# Altium integrated library Silicon Labs Clocks and Oscillators.IntLib: 678 symbols (part 30 of 45)
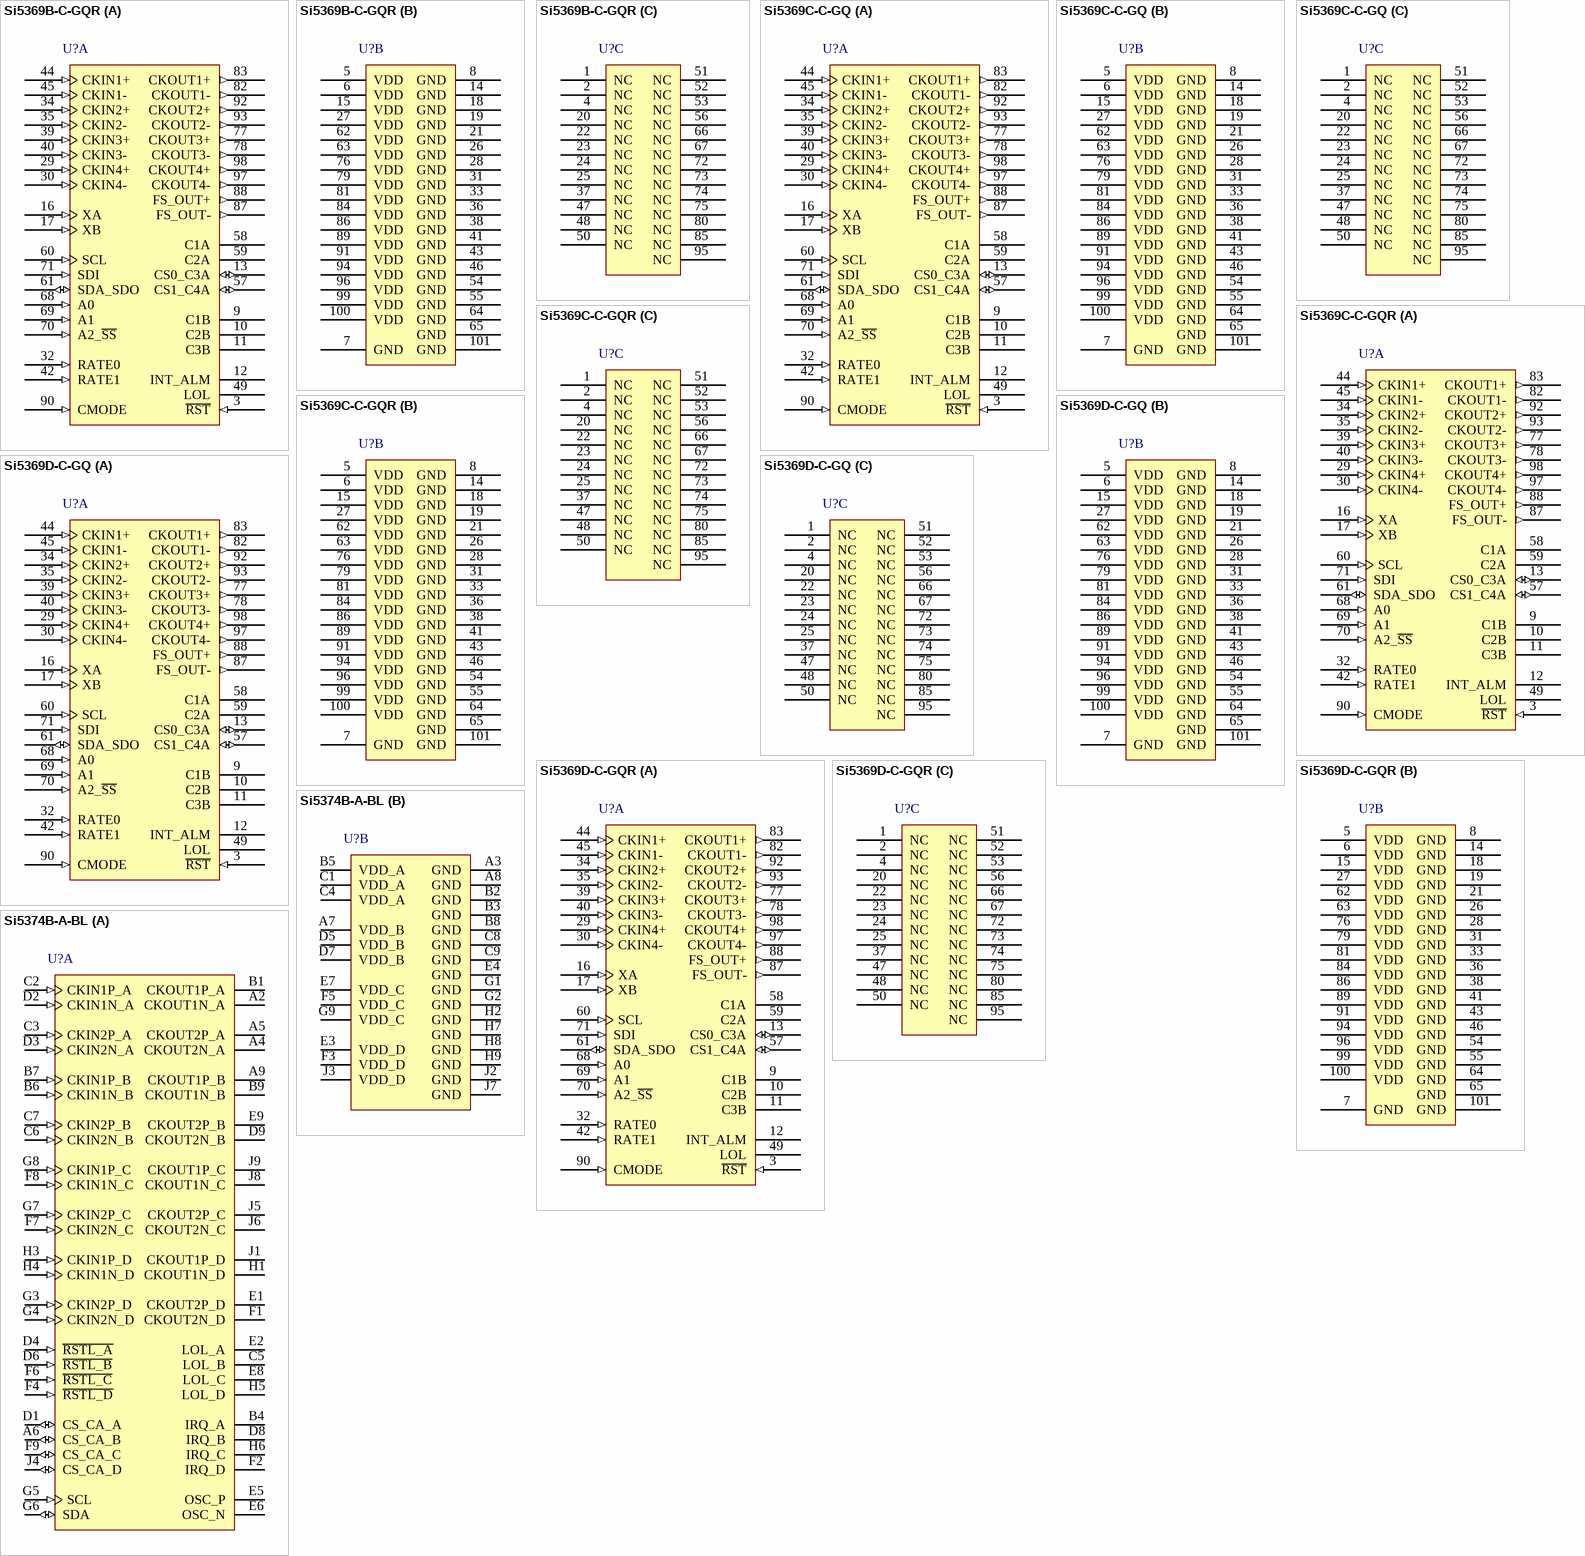
[diagram p73: symbols Si5369B-C-GQR to Si5374B-A-BL]

## Si5374B-A-BL
designator U?
4-PLL Any-Frequency Precision Clock Multiplier / Jitter Attenuator, 1.8 / 2.5 V, 0.002 to 808 MHz Output, -40 to 85 degC, 80-pin BGA; Manufacturer: Silicon Labs; PartNumber: Si5374B-A-BL; Output Format: LVPECL; LVDS; CML; LVCMOS; Reference Inputs: 8; VDD: 1.8 V; 2.5 V; Sub-Family: Clock Generators; DatasheetVersion: Rev. 1.0; PackageReference: PBGA-80; PackageDescription: 80-Ball Plastic Ball Grid Array, Body 10 x 10 mm, Pitch 1 mm; Supplier 1: Digi-Key; Supplier Part Number 1: SI5374B-A-BL-ND; Supplier 2: Mouser; Supplier Part Number 2: 634-SI5374B-A-BL; Output Frequency (MHz): 0.002 to 808; Mounting Technology: Surface Mount; Code_JEDEC: MO-192; Code_IPC: J-STD-020; ComponentLink1Description: Manufacturer URL; ComponentLink1URL: http://www.silabs.com/; ComponentLink2Description: Datasheet; ComponentLink2URL: http://www.silabs.com/Support%20Documents/TechnicalDocs/Si5374.pdf; ComponentLink3Description: Package Specification; ComponentLink3URL: http://www.silabs.com/Support%20Documents/TechnicalDocs/Si5376.pdf
footprint SLAB-PBGA-80 (BGA, 80-Balls, Body 10x10mm, Pitch 1mm)
part A pins: A2 CKOUT1N_A (hiz) "Differential output clock. Output signal format is selected by SFOUT_REG register bits. Output is differential for LVPECL, LVDS, and CML compatible modes. For CMOS format, both output pins drive in phase single-ended clock (See Datasheet)", A4 CKOUT2N_A (hiz) "Differential output clock. Output signal format is selected by SFOUT_REG register bits. Output is differential for LVPECL, LVDS, and CML compatible modes. For CMOS format, both output pins drive in phase single-ended clock (See Datasheet)", A5 CKOUT2P_A (hiz) "Differential output clock. Output signal format is selected by SFOUT_REG register bits. Output is differential for LVPECL, LVDS, and CML compatible modes. For CMOS format, both output pins drive in phase single-ended clock (See Datasheet)", A6 CS_CA_B (io) "Input: In manual clock selection mode, this pin functions as the manual input clock selector if the CKSEL_PIN is set to 1.0 = Select CKIN1. 1 = Select CKIN2 If CKSEL_PIN = 0, the CKSEL_REG register bit controls this function (See Datasheet)", A9 CKOUT1P_B (hiz) "Differential output clock. Output signal format is selected by SFOUT_REG register bits. Output is differential for LVPECL, LVDS, and CML compatible modes. For CMOS format, both output pins drive in phase single-ended clock (See Datasheet)", B1 CKOUT1P_A (hiz) "Differential output clock. Output signal format is selected by SFOUT_REG register bits. Output is differential for LVPECL, LVDS, and CML compatible modes. For CMOS format, both output pins drive in phase single-ended clock (See Datasheet)", B4 IRQ_A (hiz) "This pin functions as a device interrupt output. The interrupt output, IRQ_PINn must be set to 1. The pin functions as a maskable interrupt output with active polarity controlled by the IRQ_POLn register bit. 0 = CKINn (See Datasheet)", B6 CKIN1N_B (in) "Differential input clock. This input can also be driven with a single-ended signal.", B7 CKIN1P_B (in) "Differential input clock. This input can also be driven with a single-ended signal.", B9 CKOUT1N_B (hiz) "Differential output clock. Output signal format is selected by SFOUT_REG register bits. Output is differential for LVPECL, LVDS, and CML compatible modes. For CMOS format, both output pins drive in phase single-ended clock (See Datasheet)", C2 CKIN1P_A (in) "Differential input clock. This input can also be driven with a single-ended signal.", C3 CKIN2P_A (in) "Differential input clock. This input can also be driven with a single-ended signal.", C5 LOL_B (hiz) "This pin function as the active high PLL loss of lock indicator if the LOL_PIN register bit is set to 1. 0 = PLL locked. 1 = PLL unlocked. If LOL_PINn = 0, this pin will tri-state. Active polarity is controlled by the (See Datasheet)", C6 CKIN2N_B (in) "Differential input clock. This input can also be driven with a single-ended signal.", C7 CKIN2P_B (in) "Differential input clock. This input can also be driven with a single-ended signal.", D1 CS_CA_A (io) "Input: In manual clock selection mode, this pin functions as the manual input clock selector if the CKSEL_PIN is set to 1.0 = Select CKIN1. 1 = Select CKIN2 If CKSEL_PIN = 0, the CKSEL_REG register bit controls this function (See Datasheet)", D2 CKIN1N_A (in) "Differential input clock. This input can also be driven with a single-ended signal.", D3 CKIN2N_A (in) "Differential input clock. This input can also be driven with a single-ended signal.", D4 ~{RSTL_A} (in) "Active low input that performs external hardware reset of all four DSPLLs. Resets all internal logic to a known state and forces the device registers to their default value. Clock outputs are tri-stated during reset. The (See Datasheet)", D6 ~{RSTL_B} (in) "Active low input that performs external hardware reset of all four DSPLLs. Resets all internal logic to a known state and forces the device registers to their default value. Clock outputs are tri-stated during reset. The (See Datasheet)", D8 IRQ_B (hiz) "This pin functions as a device interrupt output. The interrupt output, IRQ_PINn must be set to 1. The pin functions as a maskable interrupt output with active polarity controlled by the IRQ_POLn register bit. 0 = CKINn (See Datasheet)", D9 CKOUT2N_B (hiz) "Differential output clock. Output signal format is selected by SFOUT_REG register bits. Output is differential for LVPECL, LVDS, and CML compatible modes. For CMOS format, both output pins drive in phase single-ended clock (See Datasheet)", E1 CKOUT2P_D (hiz) "Differential output clock. Output signal format is selected by SFOUT_REG register bits. Output is differential for LVPECL, LVDS, and CML compatible modes. For CMOS format, both output pins drive in phase single-ended clock (See Datasheet)", E2 LOL_A (hiz) "This pin function as the active high PLL loss of lock indicator if the LOL_PIN register bit is set to 1. 0 = PLL locked. 1 = PLL unlocked. If LOL_PINn = 0, this pin will tri-state. Active polarity is controlled by the (See Datasheet)", E5 OSC_P "An external low jitter reference clock should be connected to these pins. See the any-frequency precision clocks family reference manual for oscillator selection details.", E6 OSC_N "An external low jitter reference clock should be connected to these pins. See the any-frequency precision clocks family reference manual for oscillator selection details.", E8 LOL_C (hiz) "This pin function as the active high PLL loss of lock indicator if the LOL_PIN register bit is set to 1. 0 = PLL locked. 1 = PLL unlocked. If LOL_PINn = 0, this pin will tri-state. Active polarity is controlled by the (See Datasheet)", E9 CKOUT2P_B (hiz) "Differential output clock. Output signal format is selected by SFOUT_REG register bits. Output is differential for LVPECL, LVDS, and CML compatible modes. For CMOS format, both output pins drive in phase single-ended clock (See Datasheet)", F1 CKOUT2N_D (hiz) "Differential output clock. Output signal format is selected by SFOUT_REG register bits. Output is differential for LVPECL, LVDS, and CML compatible modes. For CMOS format, both output pins drive in phase single-ended clock (See Datasheet)", F2 IRQ_D (hiz) "This pin functions as a device interrupt output. The interrupt output, IRQ_PINn must be set to 1. The pin functions as a maskable interrupt output with active polarity controlled by the IRQ_POLn register bit. 0 = CKINn (See Datasheet)", F4 ~{RSTL_D} (in) "Active low input that performs external hardware reset of all four DSPLLs. Resets all internal logic to a known state and forces the device registers to their default value. Clock outputs are tri-stated during reset. The (See Datasheet)", F6 ~{RSTL_C} (in) "Active low input that performs external hardware reset of all four DSPLLs. Resets all internal logic to a known state and forces the device registers to their default value. Clock outputs are tri-stated during reset. The (See Datasheet)", F7 CKIN2N_C (in) "Differential input clock. This input can also be driven with a single-ended signal.", F8 CKIN1N_C (in) "Differential input clock. This input can also be driven with a single-ended signal.", F9 CS_CA_C (io) "Input: In manual clock selection mode, this pin functions as the manual input clock selector if the CKSEL_PIN is set to 1.0 = Select CKIN1. 1 = Select CKIN2 If CKSEL_PIN = 0, the CKSEL_REG register bit controls this function (See Datasheet)", G3 CKIN2P_D (in) "Differential input clock. This input can also be driven with a single-ended signal.", G4 CKIN2N_D (in) "Differential input clock. This input can also be driven with a single-ended signal.", G5 SCL (in) "This pin functions as the serial clock input. This pin has a weak pull-down.", G6 SDA (io) "I2C pin functions as the bi-directional serial data port.", G7 CKIN2P_C (in) "Differential input clock. This input can also be driven with a single-ended signal.", G8 CKIN1P_C (in) "Differential input clock. This input can also be driven with a single-ended signal.", H1 CKOUT1N_D (hiz) "Differential output clock. Output signal format is selected by SFOUT_REG register bits. Output is differential for LVPECL, LVDS, and CML compatible modes. For CMOS format, both output pins drive in phase single-ended clock (See Datasheet)", H3 CKIN1P_D (in) "Differential input clock. This input can also be driven with a single-ended signal.", H4 CKIN1N_D (in) "Differential input clock. This input can also be driven with a single-ended signal.", H5 LOL_D (hiz) "This pin function as the active high PLL loss of lock indicator if the LOL_PIN register bit is set to 1. 0 = PLL locked. 1 = PLL unlocked. If LOL_PINn = 0, this pin will tri-state. Active polarity is controlled by the (See Datasheet)", H6 IRQ_C (hiz) "This pin functions as a device interrupt output. The interrupt output, IRQ_PINn must be set to 1. The pin functions as a maskable interrupt output with active polarity controlled by the IRQ_POLn register bit. 0 = CKINn (See Datasheet)", J1 CKOUT1P_D (hiz) "Differential output clock. Output signal format is selected by SFOUT_REG register bits. Output is differential for LVPECL, LVDS, and CML compatible modes. For CMOS format, both output pins drive in phase single-ended clock (See Datasheet)", J4 CS_CA_D (io) "Input: In manual clock selection mode, this pin functions as the manual input clock selector if the CKSEL_PIN is set to 1.0 = Select CKIN1. 1 = Select CKIN2 If CKSEL_PIN = 0, the CKSEL_REG register bit controls this function (See Datasheet)", J5 CKOUT2P_C (hiz) "Differential output clock. Output signal format is selected by SFOUT_REG register bits. Output is differential for LVPECL, LVDS, and CML compatible modes. For CMOS format, both output pins drive in phase single-ended clock (See Datasheet)", J6 CKOUT2N_C (hiz) "Differential output clock. Output signal format is selected by SFOUT_REG register bits. Output is differential for LVPECL, LVDS, and CML compatible modes. For CMOS format, both output pins drive in phase single-ended clock (See Datasheet)", J8 CKOUT1N_C (hiz) "Differential output clock. Output signal format is selected by SFOUT_REG register bits. Output is differential for LVPECL, LVDS, and CML compatible modes. For CMOS format, both output pins drive in phase single-ended clock (See Datasheet)", J9 CKOUT1P_C (hiz) "Differential output clock. Output signal format is selected by SFOUT_REG register bits. Output is differential for LVPECL, LVDS, and CML compatible modes. For CMOS format, both output pins drive in phase single-ended clock (See Datasheet)"
part B pins: A3 GND (power) "Must be connected to system ground. Minimize the ground path impedance for optimal performance of this device. See recommended layout.", A7 VDD_B (power) "The device operates from a 1.8 or 2.5 V supply. A 0.1 uF bypass capacitive is required for every VDD_9 pin. Bypass capacitors should be associated with the following VDD_q pins: 0.1 uF per VDD pin. Four 1.0 uF should also be (See Datasheet)", A8 GND (power) "Must be connected to system ground. Minimize the ground path impedance for optimal performance of this device. See recommended layout.", B2 GND (power) "Must be connected to system ground. Minimize the ground path impedance for optimal performance of this device. See recommended layout.", B3 GND (power) "Must be connected to system ground. Minimize the ground path impedance for optimal performance of this device. See recommended layout.", B5 VDD_A (power) "The device operates from a 1.8 or 2.5 V supply. A 0.1 uF bypass capacitive is required for every VDD_9 pin. Bypass capacitors should be associated with the following VDD_q pins: 0.1 uF per VDD pin. Four 1.0 uF should also be (See Datasheet)", B8 GND (power) "Must be connected to system ground. Minimize the ground path impedance for optimal performance of this device. See recommended layout.", C1 VDD_A (power) "The device operates from a 1.8 or 2.5 V supply. A 0.1 uF bypass capacitive is required for every VDD_9 pin. Bypass capacitors should be associated with the following VDD_q pins: 0.1 uF per VDD pin. Four 1.0 uF should also be (See Datasheet)", C4 VDD_A (power) "The device operates from a 1.8 or 2.5 V supply. A 0.1 uF bypass capacitive is required for every VDD_9 pin. Bypass capacitors should be associated with the following VDD_q pins: 0.1 uF per VDD pin. Four 1.0 uF should also be (See Datasheet)", C8 GND (power) "Must be connected to system ground. Minimize the ground path impedance for optimal performance of this device. See recommended layout.", C9 GND (power) "Must be connected to system ground. Minimize the ground path impedance for optimal performance of this device. See recommended layout.", D5 VDD_B (power) "The device operates from a 1.8 or 2.5 V supply. A 0.1 uF bypass capacitive is required for every VDD_9 pin. Bypass capacitors should be associated with the following VDD_q pins: 0.1 uF per VDD pin. Four 1.0 uF should also be (See Datasheet)", D7 VDD_B (power) "The device operates from a 1.8 or 2.5 V supply. A 0.1 uF bypass capacitive is required for every VDD_9 pin. Bypass capacitors should be associated with the following VDD_q pins: 0.1 uF per VDD pin. Four 1.0 uF should also be (See Datasheet)", E3 VDD_D (power) "The device operates from a 1.8 or 2.5 V supply. A 0.1 uF bypass capacitive is required for every VDD_9 pin. Bypass capacitors should be associated with the following VDD_q pins: 0.1 uF per VDD pin. Four 1.0 uF should also be (See Datasheet)", E4 GND (power) "Must be connected to system ground. Minimize the ground path impedance for optimal performance of this device. See recommended layout.", E7 VDD_C (power) "The device operates from a 1.8 or 2.5 V supply. A 0.1 uF bypass capacitive is required for every VDD_9 pin. Bypass capacitors should be associated with the following VDD_q pins: 0.1 uF per VDD pin. Four 1.0 uF should also be (See Datasheet)", F3 VDD_D (power) "The device operates from a 1.8 or 2.5 V supply. A 0.1 uF bypass capacitive is required for every VDD_9 pin. Bypass capacitors should be associated with the following VDD_q pins: 0.1 uF per VDD pin. Four 1.0 uF should also be (See Datasheet)", F5 VDD_C (power) "The device operates from a 1.8 or 2.5 V supply. A 0.1 uF bypass capacitive is required for every VDD_9 pin. Bypass capacitors should be associated with the following VDD_q pins: 0.1 uF per VDD pin. Four 1.0 uF should also be (See Datasheet)", G1 GND (power) "Must be connected to system ground. Minimize the ground path impedance for optimal performance of this device. See recommended layout.", G2 GND (power) "Must be connected to system ground. Minimize the ground path impedance for optimal performance of this device. See recommended layout.", G9 VDD_C (power) "The device operates from a 1.8 or 2.5 V supply. A 0.1 uF bypass capacitive is required for every VDD_9 pin. Bypass capacitors should be associated with the following VDD_q pins: 0.1 uF per VDD pin. Four 1.0 uF should also be (See Datasheet)", H2 GND (power) "Must be connected to system ground. Minimize the ground path impedance for optimal performance of this device. See recommended layout.", H7 GND (power) "Must be connected to system ground. Minimize the ground path impedance for optimal performance of this device. See recommended layout.", H8 GND (power) "Must be connected to system ground. Minimize the ground path impedance for optimal performance of this device. See recommended layout.", H9 GND (power) "Must be connected to system ground. Minimize the ground path impedance for optimal performance of this device. See recommended layout.", J2 GND (power) "Must be connected to system ground. Minimize the ground path impedance for optimal performance of this device. See recommended layout.", J3 VDD_D (power) "The device operates from a 1.8 or 2.5 V supply. A 0.1 uF bypass capacitive is required for every VDD_9 pin. Bypass capacitors should be associated with the following VDD_q pins: 0.1 uF per VDD pin. Four 1.0 uF should also be (See Datasheet)", J7 GND (power) "Must be connected to system ground. Minimize the ground path impedance for optimal performance of this device. See recommended layout."

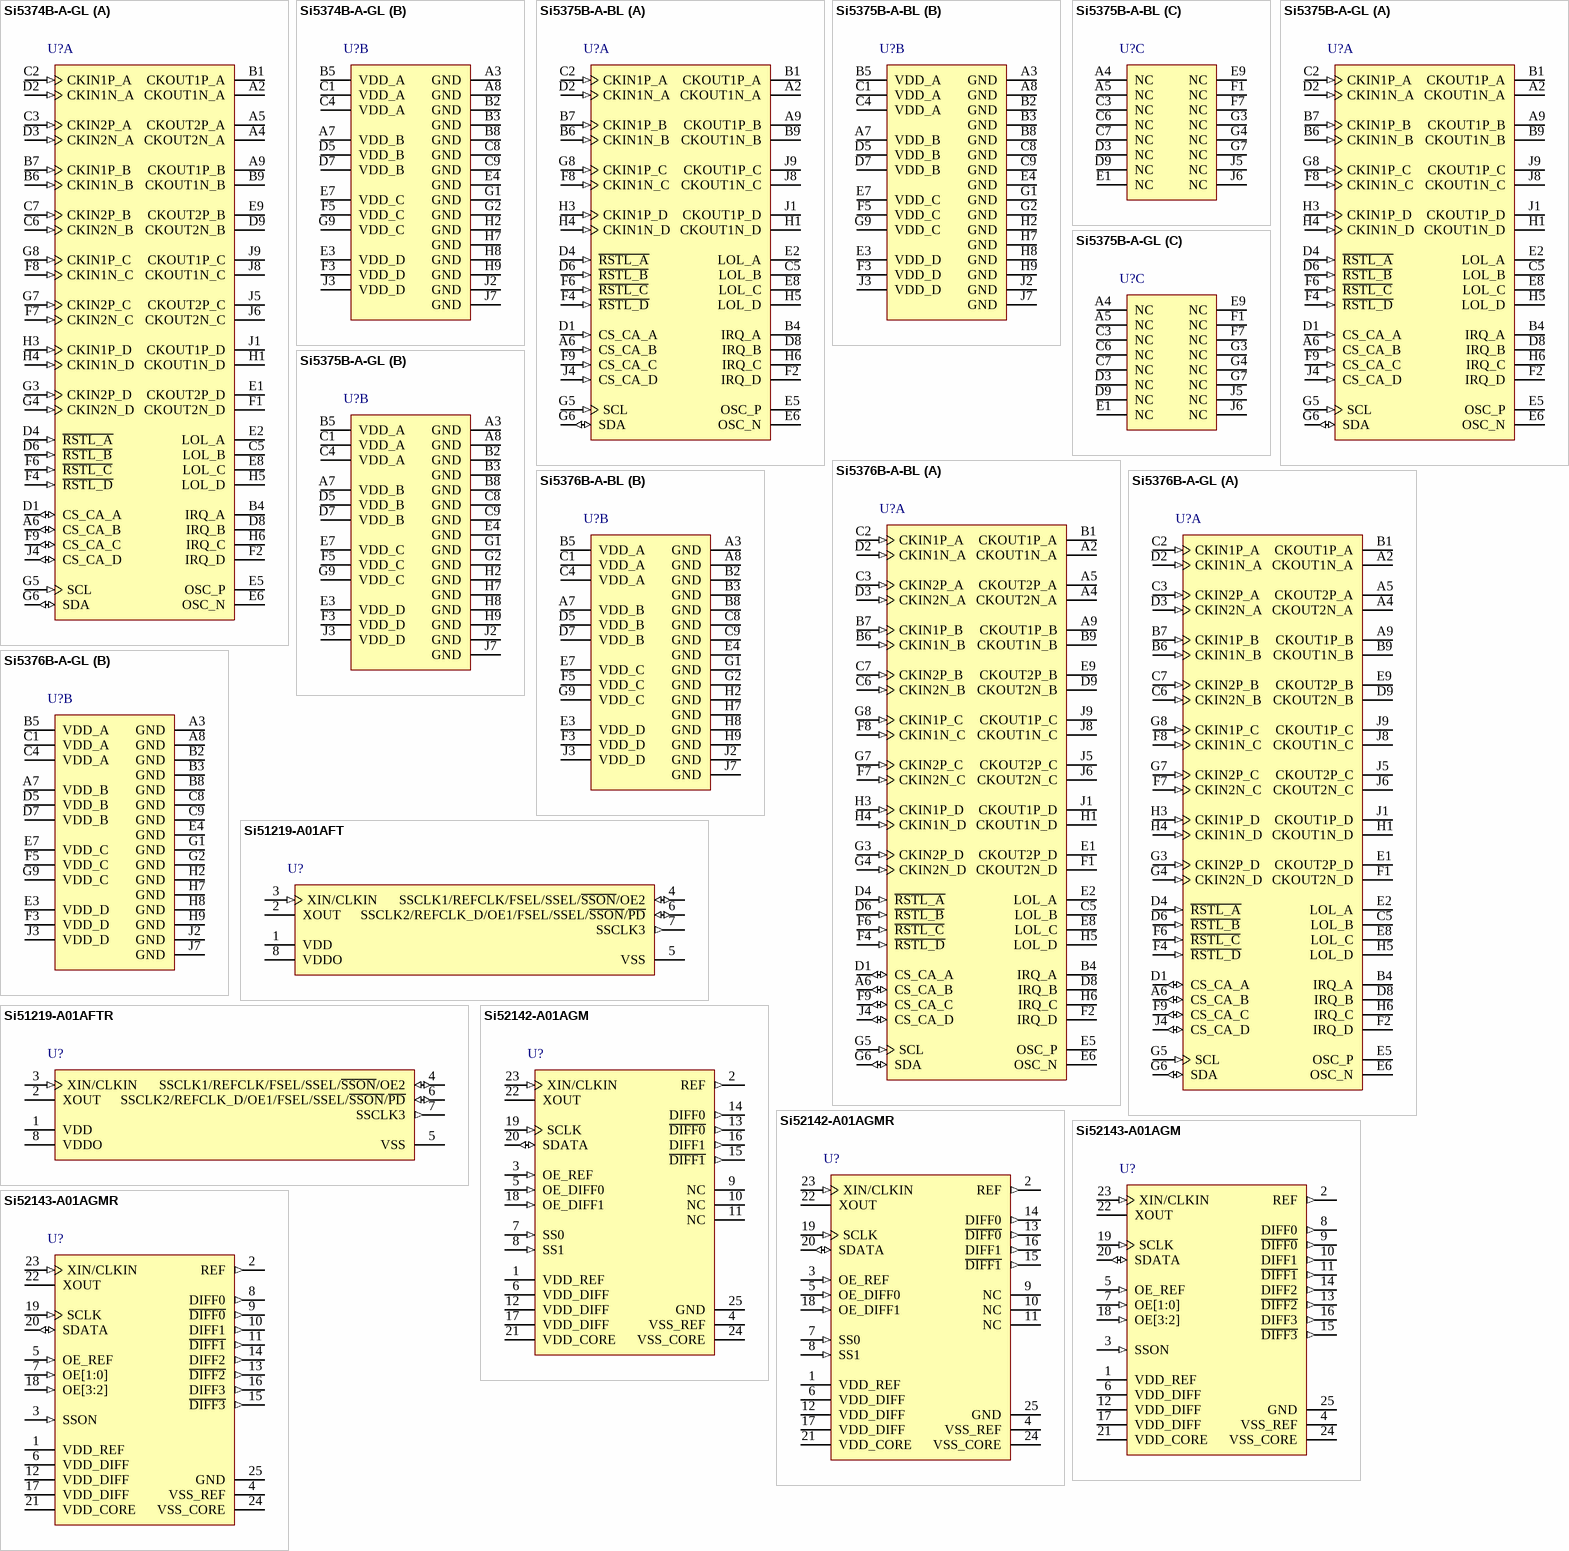
[diagram p31: symbols Si5374B-A-GL to Si52143-A01AGMR]

## Si5374B-A-GL
designator U?
4-PLL Any-Frequency Precision Clock Multiplier / Jitter Attenuator, 1.8 / 2.5 V, 0.002 to 808 MHz Output, -40 to 85 degC, 80-pin BGA; Manufacturer: Silicon Labs; PartNumber: Si5374B-A-GL; Output Format: LVPECL; LVDS; CML; LVCMOS; Reference Inputs: 8; VDD: 1.8 V; 2.5 V; Sub-Family: Clock Generators; DatasheetVersion: Rev. 1.0; PackageReference: PBGA-80; PackageDescription: 80-Ball Plastic Ball Grid Array, Body 10 x 10 mm, Pitch 1 mm; Supplier 1: Digi-Key; Supplier Part Number 1: 336-2046-ND; Supplier 2: Mouser; Supplier Part Number 2: 634-SI5374B-A-GL; Output Frequency (MHz): 0.002 to 808; Mounting Technology: Surface Mount; Code_JEDEC: MO-192; Code_IPC: J-STD-020; ComponentLink1Description: Manufacturer URL; ComponentLink1URL: http://www.silabs.com/; ComponentLink2Description: Datasheet; ComponentLink2URL: http://www.silabs.com/Support%20Documents/TechnicalDocs/Si5374.pdf; ComponentLink3Description: Package Specification; ComponentLink3URL: http://www.silabs.com/Support%20Documents/TechnicalDocs/Si5376.pdf
footprint SLAB-PBGA-80 (BGA, 80-Balls, Body 10x10mm, Pitch 1mm)
part A pins: A2 CKOUT1N_A (hiz) "Differential output clock. Output signal format is selected by SFOUT_REG register bits. Output is differential for LVPECL, LVDS, and CML compatible modes. For CMOS format, both output pins drive in phase single-ended clock (See Datasheet)", A4 CKOUT2N_A (hiz) "Differential output clock. Output signal format is selected by SFOUT_REG register bits. Output is differential for LVPECL, LVDS, and CML compatible modes. For CMOS format, both output pins drive in phase single-ended clock (See Datasheet)", A5 CKOUT2P_A (hiz) "Differential output clock. Output signal format is selected by SFOUT_REG register bits. Output is differential for LVPECL, LVDS, and CML compatible modes. For CMOS format, both output pins drive in phase single-ended clock (See Datasheet)", A6 CS_CA_B (io) "Input: In manual clock selection mode, this pin functions as the manual input clock selector if the CKSEL_PIN is set to 1.0 = Select CKIN1. 1 = Select CKIN2 If CKSEL_PIN = 0, the CKSEL_REG register bit controls this function (See Datasheet)", A9 CKOUT1P_B (hiz) "Differential output clock. Output signal format is selected by SFOUT_REG register bits. Output is differential for LVPECL, LVDS, and CML compatible modes. For CMOS format, both output pins drive in phase single-ended clock (See Datasheet)", B1 CKOUT1P_A (hiz) "Differential output clock. Output signal format is selected by SFOUT_REG register bits. Output is differential for LVPECL, LVDS, and CML compatible modes. For CMOS format, both output pins drive in phase single-ended clock (See Datasheet)", B4 IRQ_A (hiz) "This pin functions as a device interrupt output. The interrupt output, IRQ_PINn must be set to 1. The pin functions as a maskable interrupt output with active polarity controlled by the IRQ_POLn register bit. 0 = CKINn (See Datasheet)", B6 CKIN1N_B (in) "Differential input clock. This input can also be driven with a single-ended signal.", B7 CKIN1P_B (in) "Differential input clock. This input can also be driven with a single-ended signal.", B9 CKOUT1N_B (hiz) "Differential output clock. Output signal format is selected by SFOUT_REG register bits. Output is differential for LVPECL, LVDS, and CML compatible modes. For CMOS format, both output pins drive in phase single-ended clock (See Datasheet)", C2 CKIN1P_A (in) "Differential input clock. This input can also be driven with a single-ended signal.", C3 CKIN2P_A (in) "Differential input clock. This input can also be driven with a single-ended signal.", C5 LOL_B (hiz) "This pin function as the active high PLL loss of lock indicator if the LOL_PIN register bit is set to 1. 0 = PLL locked. 1 = PLL unlocked. If LOL_PINn = 0, this pin will tri-state. Active polarity is controlled by the (See Datasheet)", C6 CKIN2N_B (in) "Differential input clock. This input can also be driven with a single-ended signal.", C7 CKIN2P_B (in) "Differential input clock. This input can also be driven with a single-ended signal.", D1 CS_CA_A (io) "Input: In manual clock selection mode, this pin functions as the manual input clock selector if the CKSEL_PIN is set to 1.0 = Select CKIN1. 1 = Select CKIN2 If CKSEL_PIN = 0, the CKSEL_REG register bit controls this function (See Datasheet)", D2 CKIN1N_A (in) "Differential input clock. This input can also be driven with a single-ended signal.", D3 CKIN2N_A (in) "Differential input clock. This input can also be driven with a single-ended signal.", D4 ~{RSTL_A} (in) "Active low input that performs external hardware reset of all four DSPLLs. Resets all internal logic to a known state and forces the device registers to their default value. Clock outputs are tri-stated during reset. The (See Datasheet)", D6 ~{RSTL_B} (in) "Active low input that performs external hardware reset of all four DSPLLs. Resets all internal logic to a known state and forces the device registers to their default value. Clock outputs are tri-stated during reset. The (See Datasheet)", D8 IRQ_B (hiz) "This pin functions as a device interrupt output. The interrupt output, IRQ_PINn must be set to 1. The pin functions as a maskable interrupt output with active polarity controlled by the IRQ_POLn register bit. 0 = CKINn (See Datasheet)", D9 CKOUT2N_B (hiz) "Differential output clock. Output signal format is selected by SFOUT_REG register bits. Output is differential for LVPECL, LVDS, and CML compatible modes. For CMOS format, both output pins drive in phase single-ended clock (See Datasheet)", E1 CKOUT2P_D (hiz) "Differential output clock. Output signal format is selected by SFOUT_REG register bits. Output is differential for LVPECL, LVDS, and CML compatible modes. For CMOS format, both output pins drive in phase single-ended clock (See Datasheet)", E2 LOL_A (hiz) "This pin function as the active high PLL loss of lock indicator if the LOL_PIN register bit is set to 1. 0 = PLL locked. 1 = PLL unlocked. If LOL_PINn = 0, this pin will tri-state. Active polarity is controlled by the (See Datasheet)", E5 OSC_P "An external low jitter reference clock should be connected to these pins. See the any-frequency precision clocks family reference manual for oscillator selection details.", E6 OSC_N "An external low jitter reference clock should be connected to these pins. See the any-frequency precision clocks family reference manual for oscillator selection details.", E8 LOL_C (hiz) "This pin function as the active high PLL loss of lock indicator if the LOL_PIN register bit is set to 1. 0 = PLL locked. 1 = PLL unlocked. If LOL_PINn = 0, this pin will tri-state. Active polarity is controlled by the (See Datasheet)", E9 CKOUT2P_B (hiz) "Differential output clock. Output signal format is selected by SFOUT_REG register bits. Output is differential for LVPECL, LVDS, and CML compatible modes. For CMOS format, both output pins drive in phase single-ended clock (See Datasheet)", F1 CKOUT2N_D (hiz) "Differential output clock. Output signal format is selected by SFOUT_REG register bits. Output is differential for LVPECL, LVDS, and CML compatible modes. For CMOS format, both output pins drive in phase single-ended clock (See Datasheet)", F2 IRQ_D (hiz) "This pin functions as a device interrupt output. The interrupt output, IRQ_PINn must be set to 1. The pin functions as a maskable interrupt output with active polarity controlled by the IRQ_POLn register bit. 0 = CKINn (See Datasheet)", F4 ~{RSTL_D} (in) "Active low input that performs external hardware reset of all four DSPLLs. Resets all internal logic to a known state and forces the device registers to their default value. Clock outputs are tri-stated during reset. The (See Datasheet)", F6 ~{RSTL_C} (in) "Active low input that performs external hardware reset of all four DSPLLs. Resets all internal logic to a known state and forces the device registers to their default value. Clock outputs are tri-stated during reset. The (See Datasheet)", F7 CKIN2N_C (in) "Differential input clock. This input can also be driven with a single-ended signal.", F8 CKIN1N_C (in) "Differential input clock. This input can also be driven with a single-ended signal.", F9 CS_CA_C (io) "Input: In manual clock selection mode, this pin functions as the manual input clock selector if the CKSEL_PIN is set to 1.0 = Select CKIN1. 1 = Select CKIN2 If CKSEL_PIN = 0, the CKSEL_REG register bit controls this function (See Datasheet)", G3 CKIN2P_D (in) "Differential input clock. This input can also be driven with a single-ended signal.", G4 CKIN2N_D (in) "Differential input clock. This input can also be driven with a single-ended signal.", G5 SCL (in) "This pin functions as the serial clock input. This pin has a weak pull-down.", G6 SDA (io) "I2C pin functions as the bi-directional serial data port.", G7 CKIN2P_C (in) "Differential input clock. This input can also be driven with a single-ended signal.", G8 CKIN1P_C (in) "Differential input clock. This input can also be driven with a single-ended signal.", H1 CKOUT1N_D (hiz) "Differential output clock. Output signal format is selected by SFOUT_REG register bits. Output is differential for LVPECL, LVDS, and CML compatible modes. For CMOS format, both output pins drive in phase single-ended clock (See Datasheet)", H3 CKIN1P_D (in) "Differential input clock. This input can also be driven with a single-ended signal.", H4 CKIN1N_D (in) "Differential input clock. This input can also be driven with a single-ended signal.", H5 LOL_D (hiz) "This pin function as the active high PLL loss of lock indicator if the LOL_PIN register bit is set to 1. 0 = PLL locked. 1 = PLL unlocked. If LOL_PINn = 0, this pin will tri-state. Active polarity is controlled by the (See Datasheet)", H6 IRQ_C (hiz) "This pin functions as a device interrupt output. The interrupt output, IRQ_PINn must be set to 1. The pin functions as a maskable interrupt output with active polarity controlled by the IRQ_POLn register bit. 0 = CKINn (See Datasheet)", J1 CKOUT1P_D (hiz) "Differential output clock. Output signal format is selected by SFOUT_REG register bits. Output is differential for LVPECL, LVDS, and CML compatible modes. For CMOS format, both output pins drive in phase single-ended clock (See Datasheet)", J4 CS_CA_D (io) "Input: In manual clock selection mode, this pin functions as the manual input clock selector if the CKSEL_PIN is set to 1.0 = Select CKIN1. 1 = Select CKIN2 If CKSEL_PIN = 0, the CKSEL_REG register bit controls this function (See Datasheet)", J5 CKOUT2P_C (hiz) "Differential output clock. Output signal format is selected by SFOUT_REG register bits. Output is differential for LVPECL, LVDS, and CML compatible modes. For CMOS format, both output pins drive in phase single-ended clock (See Datasheet)", J6 CKOUT2N_C (hiz) "Differential output clock. Output signal format is selected by SFOUT_REG register bits. Output is differential for LVPECL, LVDS, and CML compatible modes. For CMOS format, both output pins drive in phase single-ended clock (See Datasheet)", J8 CKOUT1N_C (hiz) "Differential output clock. Output signal format is selected by SFOUT_REG register bits. Output is differential for LVPECL, LVDS, and CML compatible modes. For CMOS format, both output pins drive in phase single-ended clock (See Datasheet)", J9 CKOUT1P_C (hiz) "Differential output clock. Output signal format is selected by SFOUT_REG register bits. Output is differential for LVPECL, LVDS, and CML compatible modes. For CMOS format, both output pins drive in phase single-ended clock (See Datasheet)"
part B pins: A3 GND (power) "Must be connected to system ground. Minimize the ground path impedance for optimal performance of this device. See recommended layout.", A7 VDD_B (power) "The device operates from a 1.8 or 2.5 V supply. A 0.1 uF bypass capacitive is required for every VDD_9 pin. Bypass capacitors should be associated with the following VDD_q pins: 0.1 uF per VDD pin. Four 1.0 uF should also be (See Datasheet)", A8 GND (power) "Must be connected to system ground. Minimize the ground path impedance for optimal performance of this device. See recommended layout.", B2 GND (power) "Must be connected to system ground. Minimize the ground path impedance for optimal performance of this device. See recommended layout.", B3 GND (power) "Must be connected to system ground. Minimize the ground path impedance for optimal performance of this device. See recommended layout.", B5 VDD_A (power) "The device operates from a 1.8 or 2.5 V supply. A 0.1 uF bypass capacitive is required for every VDD_9 pin. Bypass capacitors should be associated with the following VDD_q pins: 0.1 uF per VDD pin. Four 1.0 uF should also be (See Datasheet)", B8 GND (power) "Must be connected to system ground. Minimize the ground path impedance for optimal performance of this device. See recommended layout.", C1 VDD_A (power) "The device operates from a 1.8 or 2.5 V supply. A 0.1 uF bypass capacitive is required for every VDD_9 pin. Bypass capacitors should be associated with the following VDD_q pins: 0.1 uF per VDD pin. Four 1.0 uF should also be (See Datasheet)", C4 VDD_A (power) "The device operates from a 1.8 or 2.5 V supply. A 0.1 uF bypass capacitive is required for every VDD_9 pin. Bypass capacitors should be associated with the following VDD_q pins: 0.1 uF per VDD pin. Four 1.0 uF should also be (See Datasheet)", C8 GND (power) "Must be connected to system ground. Minimize the ground path impedance for optimal performance of this device. See recommended layout.", C9 GND (power) "Must be connected to system ground. Minimize the ground path impedance for optimal performance of this device. See recommended layout.", D5 VDD_B (power) "The device operates from a 1.8 or 2.5 V supply. A 0.1 uF bypass capacitive is required for every VDD_9 pin. Bypass capacitors should be associated with the following VDD_q pins: 0.1 uF per VDD pin. Four 1.0 uF should also be (See Datasheet)", D7 VDD_B (power) "The device operates from a 1.8 or 2.5 V supply. A 0.1 uF bypass capacitive is required for every VDD_9 pin. Bypass capacitors should be associated with the following VDD_q pins: 0.1 uF per VDD pin. Four 1.0 uF should also be (See Datasheet)", E3 VDD_D (power) "The device operates from a 1.8 or 2.5 V supply. A 0.1 uF bypass capacitive is required for every VDD_9 pin. Bypass capacitors should be associated with the following VDD_q pins: 0.1 uF per VDD pin. Four 1.0 uF should also be (See Datasheet)", E4 GND (power) "Must be connected to system ground. Minimize the ground path impedance for optimal performance of this device. See recommended layout.", E7 VDD_C (power) "The device operates from a 1.8 or 2.5 V supply. A 0.1 uF bypass capacitive is required for every VDD_9 pin. Bypass capacitors should be associated with the following VDD_q pins: 0.1 uF per VDD pin. Four 1.0 uF should also be (See Datasheet)", F3 VDD_D (power) "The device operates from a 1.8 or 2.5 V supply. A 0.1 uF bypass capacitive is required for every VDD_9 pin. Bypass capacitors should be associated with the following VDD_q pins: 0.1 uF per VDD pin. Four 1.0 uF should also be (See Datasheet)", F5 VDD_C (power) "The device operates from a 1.8 or 2.5 V supply. A 0.1 uF bypass capacitive is required for every VDD_9 pin. Bypass capacitors should be associated with the following VDD_q pins: 0.1 uF per VDD pin. Four 1.0 uF should also be (See Datasheet)", G1 GND (power) "Must be connected to system ground. Minimize the ground path impedance for optimal performance of this device. See recommended layout.", G2 GND (power) "Must be connected to system ground. Minimize the ground path impedance for optimal performance of this device. See recommended layout.", G9 VDD_C (power) "The device operates from a 1.8 or 2.5 V supply. A 0.1 uF bypass capacitive is required for every VDD_9 pin. Bypass capacitors should be associated with the following VDD_q pins: 0.1 uF per VDD pin. Four 1.0 uF should also be (See Datasheet)", H2 GND (power) "Must be connected to system ground. Minimize the ground path impedance for optimal performance of this device. See recommended layout.", H7 GND (power) "Must be connected to system ground. Minimize the ground path impedance for optimal performance of this device. See recommended layout.", H8 GND (power) "Must be connected to system ground. Minimize the ground path impedance for optimal performance of this device. See recommended layout.", H9 GND (power) "Must be connected to system ground. Minimize the ground path impedance for optimal performance of this device. See recommended layout.", J2 GND (power) "Must be connected to system ground. Minimize the ground path impedance for optimal performance of this device. See recommended layout.", J3 VDD_D (power) "The device operates from a 1.8 or 2.5 V supply. A 0.1 uF bypass capacitive is required for every VDD_9 pin. Bypass capacitors should be associated with the following VDD_q pins: 0.1 uF per VDD pin. Four 1.0 uF should also be (See Datasheet)", J7 GND (power) "Must be connected to system ground. Minimize the ground path impedance for optimal performance of this device. See recommended layout."